# Altium footprint library E2842.PcbLib: 1 footprints
Each footprint in its own frame and in the unit in brackets; x right, y up, seen from the top. Pads: shape width x height; smd on the part's side, far side on the other; paste and mask are expansions set on the pad; w line width, h text height; cw(c..) or ccw(c..) is an arc to the next point about the centre after c.
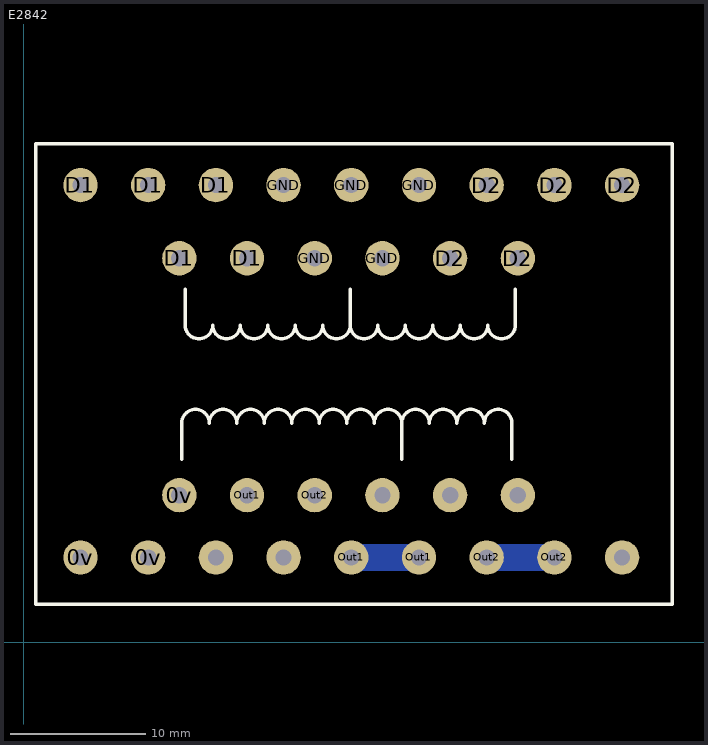
[diagram p0: the footprint, top view; thin cyan lines are the x and y axes]

## E2842 [mm] "L?"
pads (30):
  round 2.54 hole 1.2: 0v(4.2,6.25) 0v(9.2,6.25) 0v(11.5,10.85) D1(4.2,33.75) D1(9.2,33.75) D1(11.5,28.35) D1(14.2,33.75) D1(16.5,28.35) D2(31.5,28.35) D2(34.2,33.75) D2(36.5,28.35) D2(39.2,33.75) D2(44.2,33.75) GND(19.2,33.75) GND(21.5,28.35) GND(24.2,33.75) GND(26.5,28.35) GND(29.2,33.75) Out1(16.5,10.85) Out1(24.2,6.25) Out1(29.2,6.25) Out2(21.5,10.85) Out2(34.2,6.25) Out2(39.2,6.25) ""(14.2,6.25) ""(19.2,6.25) ""(26.5,10.85) ""(31.5,10.85) ""(36.5,10.85) ""(44.2,6.25)
Bottom Layer:
  lines w2: 21.5,10.85 21.582,10.85 ; 24.2,6.25 29.2,6.25 ; 34.2,6.25 39.2,6.25
Top Overlay:
  lines w0.254: 11.676,13.507 11.676,16.174 cw(c12.692,16.174) 13.708,16.174 cw(c14.724,16.174) 15.74,16.174 cw(c16.756,16.174) 17.772,16.174 cw(c18.788,16.174) 19.804,16.174 cw(c20.82,16.174) 21.836,16.174 cw(c22.852,16.174) 23.868,16.174 cw(c24.884,16.174) 25.9,16.174 cw(c26.916,16.174) 27.932,16.174 ; 11.93,26.08 11.93,23.413 ccw(c12.946,23.413) 13.962,23.413 ccw(c14.978,23.413) 15.994,23.413 ccw(c17.01,23.413) 18.026,23.413 ccw(c19.042,23.413) 20.058,23.413 ccw(c21.074,23.413) 22.09,23.413 ccw(c23.106,23.413) 24.122,23.413 ; 24.122,26.08 24.122,23.413 ; 27.932,13.507 27.932,16.174 ; 36.06,13.507 36.06,16.174 ccw(c35.044,16.174) 34.028,16.174 ccw(c33.012,16.174) 31.996,16.174 ccw(c30.98,16.174) 29.964,16.174 ccw(c28.948,16.174) 27.932,16.174 ; 36.314,26.08 36.314,23.413 cw(c35.298,23.413) 34.282,23.413 cw(c33.266,23.413) 32.25,23.413 cw(c31.234,23.413) 30.218,23.413 cw(c29.202,23.413) 28.186,23.413 cw(c27.17,23.413) 26.154,23.413 cw(c25.138,23.413) 24.122,23.413 ; 0.9,2.8 0.9,36.8 47.9,36.8 47.9,2.8 0.9,2.8
3D body: height 21.4, standoff -4.1, extent 9.622,7.665 38.622,31.665